# Altium schematic symbol library INA226.SchLib: 1 symbol
Pins are listed as number, name and electrical type; pins without a type are passive.

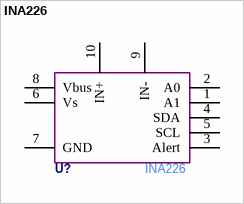
[diagram p0: symbol INA226]

## INA226
designator U?  Manufacturer Part Number: INA226  (hidden comment: *)
pins: 1 A1, 2 A0, 3 Alert, 4 SDA, 5 SCL, 6 Vs, 7 GND, 8 Vbus, 9 IN-, 10 IN+